# Altium footprint library RS-25 VERT.PcbLib: 1 footprints
Each footprint in its own frame and in the unit in brackets; x right, y up, seen from the top. Pads: shape width x height; smd on the part's side, far side on the other; paste and mask are expansions set on the pad; w line width, h text height; cw(c..) or ccw(c..) is an arc to the next point about the centre after c.
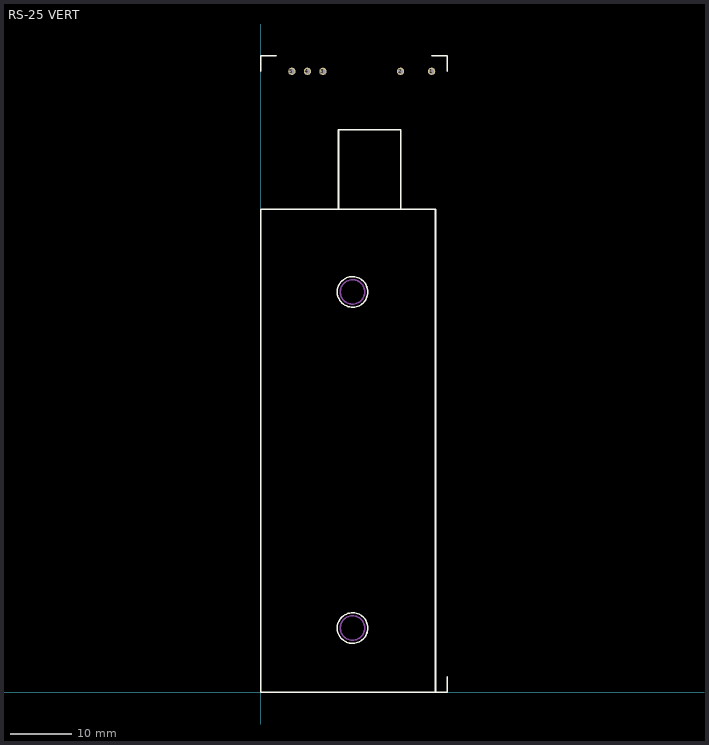
[diagram p0: the footprint, top view; thin cyan lines are the x and y axes]

## RS-25 VERT [mm] "MeanWell AC-DC 25W"
pads (5):
  round 1.2 hole 0.8: 1(27.94,101.6) 2(22.86,101.6) 3(10.16,101.6) 4(7.62,101.6) 5(5.08,101.6)
Top Overlay:
  circle w0.254: c15,65.5 r2.5
  circle w0.254: c15,10.5 r2.5
  lines w0.254: 0,101.6 0,104.14 2.54,104.14 ; 12.7,79 12.7,92.075 22.86,92.075 ; 22.86,79 22.86,92 ; 27.94,0 30.48,0 30.48,2.54 ; 27.94,104.14 30.48,104.14 30.48,101.6 ; 0,0 0,79 28.575,79 28.575,0 0,0
Top Solder:
  text "+5V" at 4.318,99.06 h1.52
  text "GND" at 6.858,99.06 h1.52
  text "FG" at 9.398,99.06 h1.52
  text "AC/N" at 27.178,98.044 h1.52
  text "AC/L" at 22.352,98.044 h1.52
Mechanical 1:
  circle w0.254: c15,10.5 r2
  circle w0.254: c15,65.5 r2
3D body: height 49, standoff 10, extent 12.7,78.994 22.86,92.075
3D body: height 50, standoff 0, extent 0,0 28.575,78.994